# EAGLE library part PICOLO_COOKIE (library Picolo cookie)
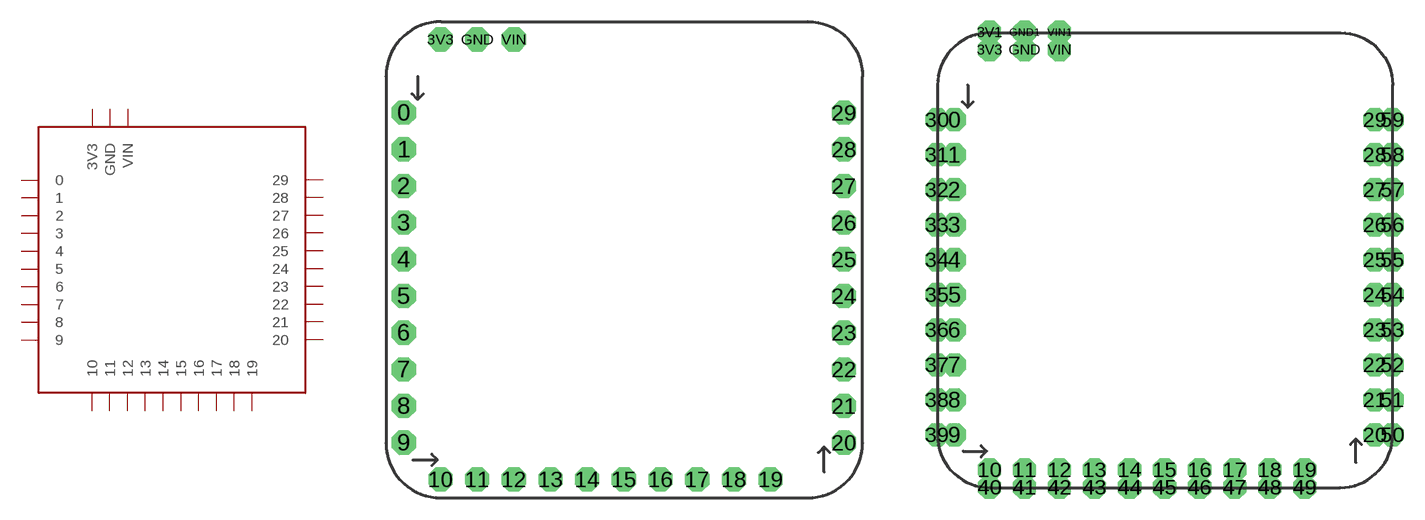
[diagram p0: symbol with the pads of PICOLO_COOKIE33; footprints PICOLO_COOKIE33, PICOLO_COOKIE33-C]

Designator prefix -

## PICOLO_COOKIE33  [PICOLO_COOKIE33]
0  0
1  1
2  2
3  3
3V3  3V3
4  4
5  5
6  6
7  7
8  8
9  9
10  10
11  11
12  12
13  13
14  14
15  15
16  16
17  17
18  18
19  19
20  20
21  21
22  22
23  23
24  24
25  25
26  26
27  27
28  28
29  29
GND  GND
VIN  VIN

## PICOLO_COOKIE33-C  [PICOLO_COOKIE33-C]
0  0
1  1
2  2
3  3
3V1  3V3
3V3  3V3
4  4
5  5
6  6
7  7
8  8
9  9
10  10
11  11
12  12
13  13
14  14
15  15
16  16
17  17
18  18
19  19
20  20
21  21
22  22
23  23
24  24
25  25
26  26
27  27
28  28
29  29
30  0
31  1
32  2
33  3
34  4
35  5
36  6
37  7
38  8
39  9
40  10
41  11
42  12
43  13
44  14
45  15
46  16
47  17
48  18
49  19
50  20
51  21
52  22
53  23
54  24
55  25
56  26
57  27
58  28
59  29
GND  GND
GND1  GND
VIN  VIN
VIN1  VIN

## PICOLO_COOKIE33-C-M  [PICOLO_COOKIE33-C-M]
Pads as for PICOLO_COOKIE33-C

## PICOLO_COOKIE33-M  [PICOLO_COOKIE33-M]
Pads as for PICOLO_COOKIE33

## Footprint PICOLO_COOKIE33 (pad centres in mm)
Picolo cookie master
drill 0.9 pad 1.676 octagon: 0 1.23,-6.31; 1 1.23,-8.85; 2 1.23,-11.39; 3 1.23,-13.93; 3V3 3.77,-1.23; 4 1.23,-16.47; 5 1.23,-19.01; 6 1.23,-21.55; 7 1.23,-24.09; 8 1.23,-26.63; 9 1.23,-29.17; 10 3.77,-31.71; 11 6.31,-31.71; 12 8.85,-31.71; 13 11.39,-31.71; 14 13.93,-31.71; 15 16.47,-31.71; 16 19.01,-31.71; 17 21.55,-31.71; 18 24.09,-31.71; 19 26.63,-31.71; 20 31.71,-29.17; 21 31.71,-26.63; 22 31.71,-24.09; 23 31.71,-21.55; 24 31.71,-19.01; 25 31.71,-16.47; 26 31.71,-13.93; 27 31.71,-11.39; 28 31.71,-8.85; 29 31.71,-6.31; GND 6.31,-1.23; VIN 8.85,-1.23

## Footprint PICOLO_COOKIE33-C (pad centres in mm)
Picolo cookie master
drill 0.9 pad 1.676 octagon: 0 1.23,-6.31; 1 1.23,-8.85; 2 1.23,-11.39; 3 1.23,-13.93; 3V1 3.77,0.04; 3V3 3.77,-1.23; 4 1.23,-16.47; 5 1.23,-19.01; 6 1.23,-21.55; 7 1.23,-24.09; 8 1.23,-26.63; 9 1.23,-29.17; 10 3.77,-31.71; 11 6.31,-31.71; 12 8.85,-31.71; 13 11.39,-31.71; 14 13.93,-31.71; 15 16.47,-31.71; 16 19.01,-31.71; 17 21.55,-31.71; 18 24.09,-31.71; 19 26.63,-31.71; 20 31.71,-29.17; 21 31.71,-26.63; 22 31.71,-24.09; 23 31.71,-21.55; 24 31.71,-19.01; 25 31.71,-16.47; 26 31.71,-13.93; 27 31.71,-11.39; 28 31.71,-8.85; 29 31.71,-6.31; 30 -0.04,-6.31; 31 -0.04,-8.85; 32 -0.04,-11.39; 33 -0.04,-13.93; 34 -0.04,-16.47; 35 -0.04,-19.01; 36 -0.04,-21.55; 37 -0.04,-24.09; 38 -0.04,-26.63; 39 -0.04,-29.17; 40 3.77,-32.98; 41 6.31,-32.98; 42 8.85,-32.98; 43 11.39,-32.98; 44 13.93,-32.98; 45 16.47,-32.98; 46 19.01,-32.98; 47 21.55,-32.98; 48 24.09,-32.98; 49 26.63,-32.98; 50 32.98,-29.17; 51 32.98,-26.63; 52 32.98,-24.09; 53 32.98,-21.55; 54 32.98,-19.01; 55 32.98,-16.47; 56 32.98,-13.93; 57 32.98,-11.39; 58 32.98,-8.85; 59 32.98,-6.31; GND 6.31,-1.23; GND1 6.31,0.04; VIN 8.85,-1.23; VIN1 8.85,0.04

## Footprint PICOLO_COOKIE33-C-M (pad centres in mm)
Picolo cookie master with milling layer
drill 0.9 pad 1.676 octagon: 0 1.23,-6.31; 1 1.23,-8.85; 2 1.23,-11.39; 3 1.23,-13.93; 3V1 3.77,0.04; 3V3 3.77,-1.23; 4 1.23,-16.47; 5 1.23,-19.01; 6 1.23,-21.55; 7 1.23,-24.09; 8 1.23,-26.63; 9 1.23,-29.17; 10 3.77,-31.71; 11 6.31,-31.71; 12 8.85,-31.71; 13 11.39,-31.71; 14 13.93,-31.71; 15 16.47,-31.71; 16 19.01,-31.71; 17 21.55,-31.71; 18 24.09,-31.71; 19 26.63,-31.71; 20 31.71,-29.17; 21 31.71,-26.63; 22 31.71,-24.09; 23 31.71,-21.55; 24 31.71,-19.01; 25 31.71,-16.47; 26 31.71,-13.93; 27 31.71,-11.39; 28 31.71,-8.85; 29 31.71,-6.31; 30 -0.04,-6.31; 31 -0.04,-8.85; 32 -0.04,-11.39; 33 -0.04,-13.93; 34 -0.04,-16.47; 35 -0.04,-19.01; 36 -0.04,-21.55; 37 -0.04,-24.09; 38 -0.04,-26.63; 39 -0.04,-29.17; 40 3.77,-32.98; 41 6.31,-32.98; 42 8.85,-32.98; 43 11.39,-32.98; 44 13.93,-32.98; 45 16.47,-32.98; 46 19.01,-32.98; 47 21.55,-32.98; 48 24.09,-32.98; 49 26.63,-32.98; 50 32.98,-29.17; 51 32.98,-26.63; 52 32.98,-24.09; 53 32.98,-21.55; 54 32.98,-19.01; 55 32.98,-16.47; 56 32.98,-13.93; 57 32.98,-11.39; 58 32.98,-8.85; 59 32.98,-6.31; GND 6.31,-1.23; GND1 6.31,0.04; VIN 8.85,-1.23; VIN1 8.85,0.04

## Footprint PICOLO_COOKIE33-M (pad centres in mm)
Picolo cookie master with milling layer
drill 0.9 pad 1.676 octagon: 0 1.23,-6.31; 1 1.23,-8.85; 2 1.23,-11.39; 3 1.23,-13.93; 3V3 3.77,-1.23; 4 1.23,-16.47; 5 1.23,-19.01; 6 1.23,-21.55; 7 1.23,-24.09; 8 1.23,-26.63; 9 1.23,-29.17; 10 3.77,-31.71; 11 6.31,-31.71; 12 8.85,-31.71; 13 11.39,-31.71; 14 13.93,-31.71; 15 16.47,-31.71; 16 19.01,-31.71; 17 21.55,-31.71; 18 24.09,-31.71; 19 26.63,-31.71; 20 31.71,-29.17; 21 31.71,-26.63; 22 31.71,-24.09; 23 31.71,-21.55; 24 31.71,-19.01; 25 31.71,-16.47; 26 31.71,-13.93; 27 31.71,-11.39; 28 31.71,-8.85; 29 31.71,-6.31; GND 6.31,-1.23; VIN 8.85,-1.23